# Altium schematic symbol library NPN+NPN.SchLib: 1 symbol
Pins are listed as number, name and electrical type; pins without a type are passive.

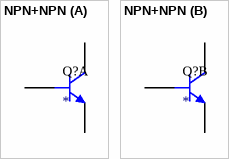
[diagram p0: symbol NPN+NPN]

## NPN+NPN
designator Q?
part A pins: 1 E, 2 B, 6 C
part B pins: 3 C, 4 E, 5 B